# EAGLE library part 8PIN_SIP_.100IN (library Custom)
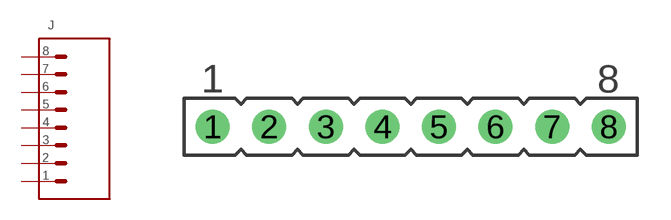
[diagram p3: symbol with the pads of 8-PIN_SIP_.100IN; footprint 8-PIN_SIP_.100IN]

Designator prefix J

## 8PIN_SIP_.100IN  [8-PIN_SIP_.100IN]
1  S1  pas
2  S2  pas
3  S3  pas
4  S4  pas
5  S5  pas
6  S6  pas
7  S7  pas
8  S8  pas

## Footprint 8-PIN_SIP_.100IN (pad centres in mm)
drill 1.016: 1 -8.89,0; 2 -6.35,0; 3 -3.81,0; 4 -1.27,0; 5 1.27,0; 6 3.81,0; 7 6.35,0; 8 8.89,0